# Altium schematic symbol library 74LVC1G373DBVRE4.SchLib: 1 symbol
Pins are listed as number, name and electrical type; pins without a type are passive.

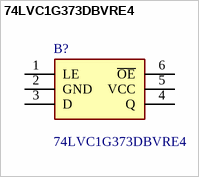
[diagram p0: symbol 74LVC1G373DBVRE4]

## 74LVC1G373DBVRE4
designator B?
IC SNGL D-TYPE LATCH SOT23-6; Manufacturer_Name: Texas Instruments; Geometry.Height: 1.45mm; Mouser Part Number: 595-74LVC1G373DBVRE4; Mouser Price/Stock: https://www.mouser.co.uk/ProductDetail/Texas-Instruments/74LVC1G373DBVRE4?qs=pajgIaoyDUixBk1O2Qp78w%3D%3D; Manufacturer_Part_Number: 74LVC1G373DBVRE4; Datasheet Link: http://www.ti.com/general/docs/suppproductinfo.tsp?distId=10&gotoUrl=http%3A%2F%2Fwww.ti.com%2Flit%2Fgpn%2Fsn74lvc1g373
footprint SOT95P280X145-6N
pins: 1 LE, 2 GND, 3 D, 4 Q, 5 VCC, 6 ~{OE}